# Altium footprint library RFID_ANT_40X40.PcbLib: 1 footprints
Each footprint in its own frame and in the unit in brackets; x right, y up, seen from the top. Pads: shape width x height; smd on the part's side, far side on the other; paste and mask are expansions set on the pad; w line width, h text height; cw(c..) or ccw(c..) is an arc to the next point about the centre after c.
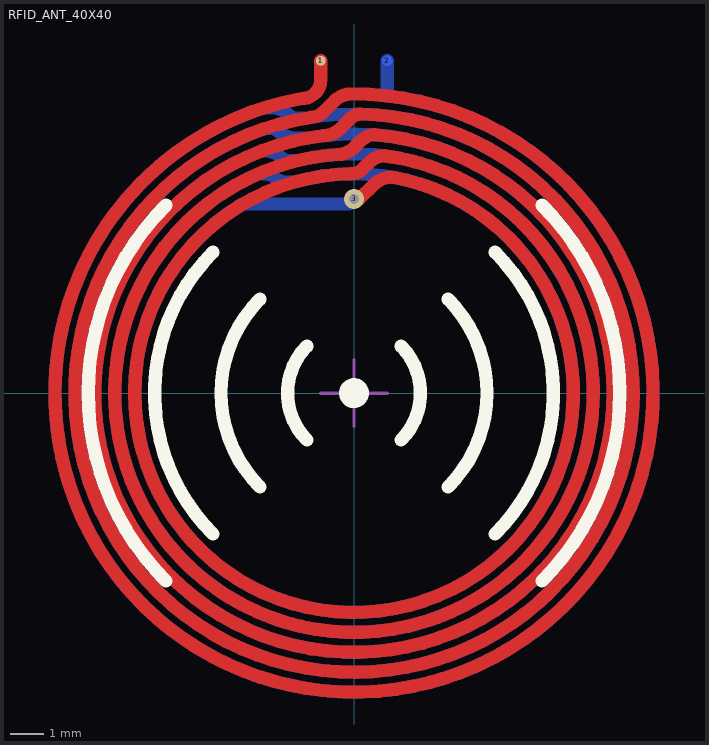
[diagram p0: the footprint, top view; thin cyan lines are the x and y axes]

## RFID_ANT_40X40 [mm]
pads (3):
  round 0.3 smd: 1(-1,10) 3(0,5.842)
  round 0.3 smd far side: 2(1,10)
via 0,5.842 diameter 0.6 hole 0.3
Top Layer:
  lines w0.4: -1,10 -1,9.426 cw(c-1.563,9.426) -1.563,8.863 ccw(c0,0) 1.273,-8.91 ccw(c0,0) -0.09,9 ccw(c-0.09,8.299) -0.586,8.794 -0.93,8.45 cw(c-1.292,8.811) -1.292,8.3 ccw(c0,0) 0.213,8.397 ccw(c0.213,7.926) -0.121,8.259 -0.45,7.93 cw(c-0.885,8.365) -0.885,7.75 ccw(c0,0) 0.617,7.776 ; 0,5.842 0.162,5.842 0.589,6.269 cw(c1.146,5.712) 1.146,6.5 cw(c0,0) -0.089,6.599 ccw(c-0.089,7.102) 0.267,6.747 0.481,6.961 ; 0.617,7.776 ccw(c0.617,7.242) 0.239,7.619 0.01,7.39 cw(c-0.49,7.89) -0.49,7.183 ccw(c0,0) 0.917,7.141 ccw(c0.917,6.525) 0.481,6.961 ; 0.481,6.961 ccw(c0.917,6.525) 0.481,6.961 ; 0.481,6.961 0.481,6.961
Bottom Layer:
  lines w0.4: -2.882,6.594 -2.892,6.594 ; 0,5.842 -0.152,5.69 -3.296,5.69 ccw(c-3.296,5.472) -3.451,5.626 ccw(c0,0) -1.78,6.355 ; 1,10 1,8.951 cw(c0.994,8.951) 0.994,8.945 cw(c0,0) -2.69,8.589 ; -2.892,6.594 ccw(c0,0) -1.692,6.998 ; -2.892,6.594 -2.641,6.594 cw(c-2.641,6.239) -2.39,6.49 ccw(c-2.065,6.815) -2.065,6.355 -1.78,6.355 ; -2.892,6.594 -2.892,6.594 ; -2.788,7.285 ccw(c0,0) -1.387,7.676 ; -2.788,7.285 -2.66,7.285 cw(c-2.66,6.62) -2.19,7.09 ccw(c-1.969,7.311) -1.969,6.998 -1.692,6.998 ; -2.788,7.285 -2.788,7.285 ; -2.69,8.589 -2.47,8.589 cw(c-2.47,7.91) -1.99,8.39 ccw(c-1.694,8.686) -1.694,8.268 -1.486,8.268 cw(c0,0) -2.68,7.961 -2.461,7.961 cw(c-2.461,7.719) -2.29,7.89 ccw(c-1.772,8.408) -1.772,7.676 -1.387,7.676 ; -2.69,8.589 -2.69,8.589 ; -1.78,6.355 -1.78,6.355 ; -1.692,6.998 -1.692,6.998 ; -1.387,7.676 -1.387,7.676
Top Overlay:
  circle w0.5: c0,0 r0.2
  lines w0.4: -5.657,-5.657 cw(c0,0) -5.657,5.657 ; -4.243,-4.243 cw(c0,0) -4.243,4.243 ; -2.828,-2.828 cw(c0,0) -2.828,2.828 ; -1.414,-1.414 cw(c0,0) -1.414,1.414 ; 1.414,-1.414 ccw(c0,0) 1.414,1.414 ; 2.828,-2.828 ccw(c0,0) 2.828,2.828 ; 4.243,-4.243 ccw(c0,0) 4.243,4.243 ; 5.657,-5.657 ccw(c0,0) 5.657,5.657
Mechanical 15:
  lines w0.1: -1,0 1,0 ; 0,-1 0,1